# Altium footprint library Power Board UCC28951.PcbLib: 44 footprints (part 1 of 3)
Each footprint in its own frame and in the unit in brackets; x right, y up, seen from the top. Pads: shape width x height; smd on the part's side, far side on the other; paste and mask are expansions set on the pad; w line width, h text height; cw(c..) or ccw(c..) is an arc to the next point about the centre after c.
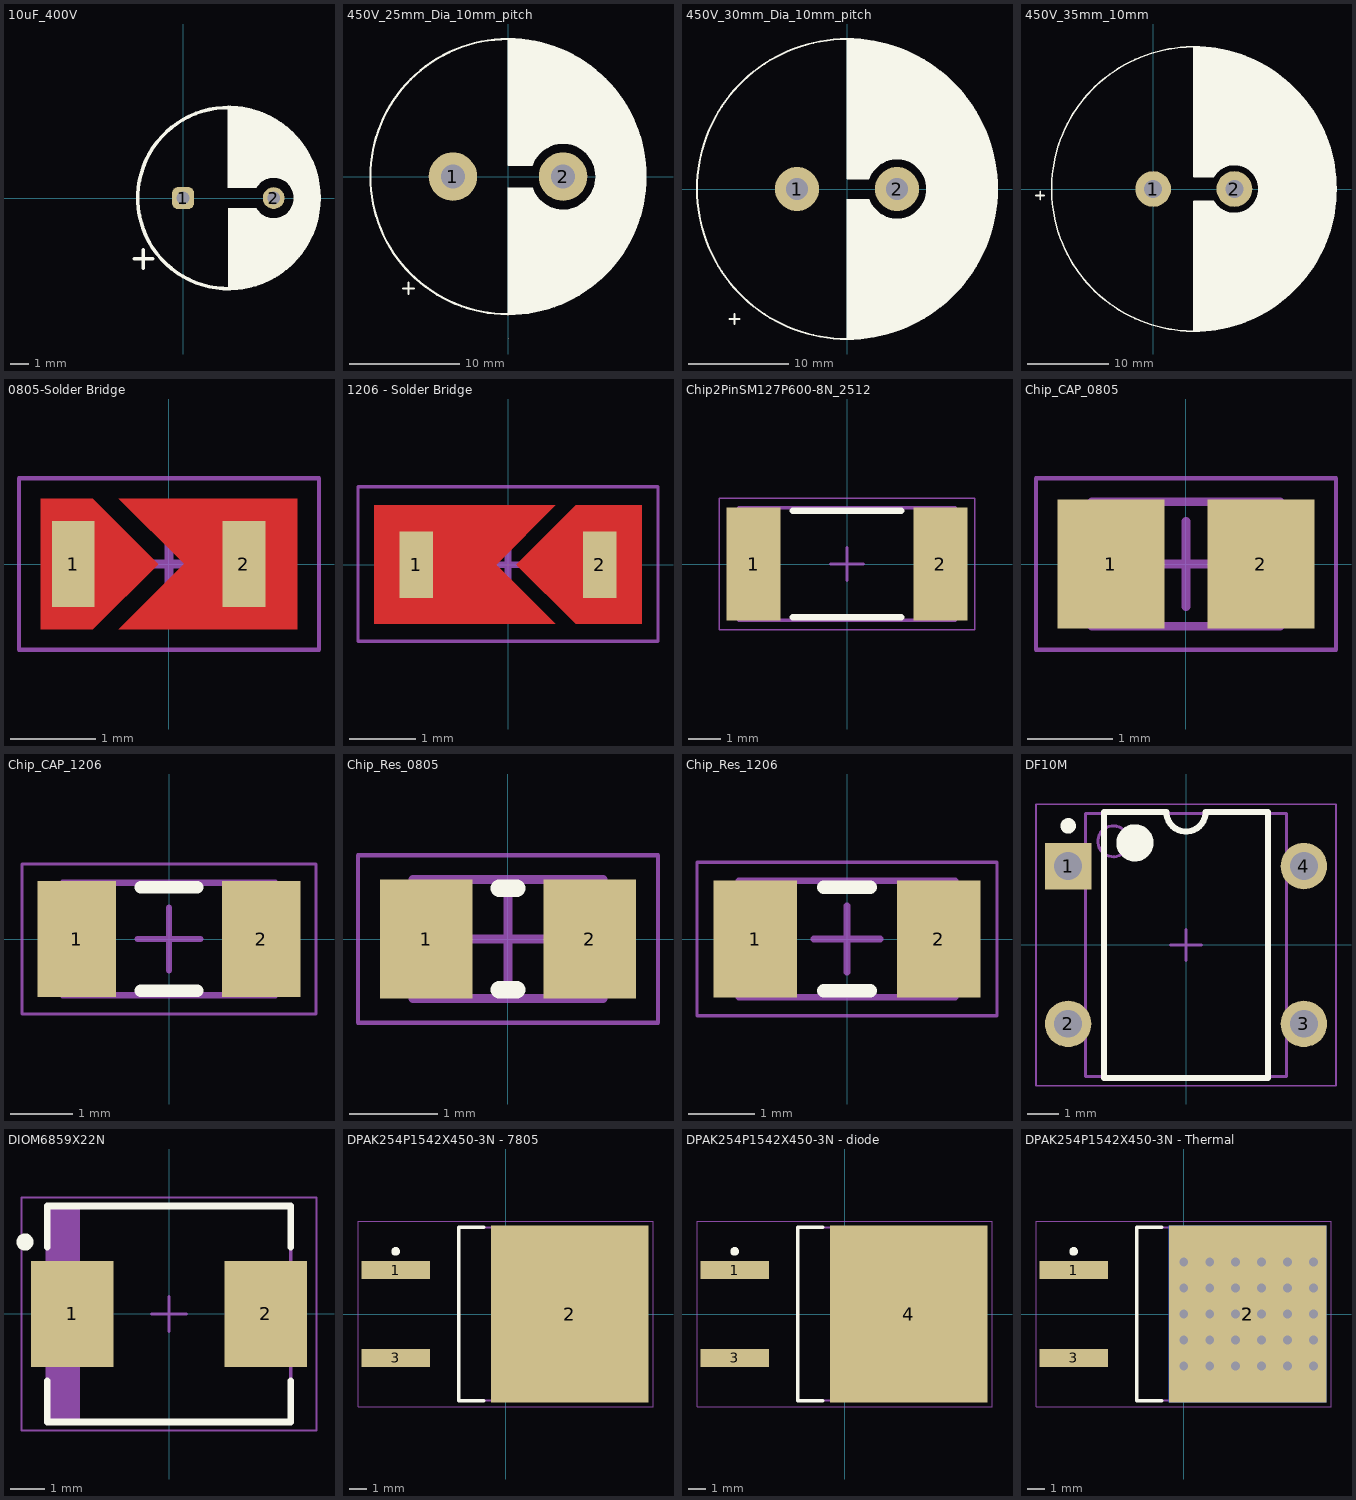
[diagram p0: the footprints below, top view; thin cyan lines are the x and y axes]

## 10uF_400V [mm]
pads (2):
  rrect50% 1.2x1.2 hole 0.7: 1(0,0)
  round 1.2 hole 0.7: 2(5,0)
Top Overlay:
  circle w0.2: c2.5,0 r5
  pour cut-out: 4,1.4
  pour cut-out: 6.5,6
  pour cut-out: -5.1,3.4
  pour cut-out: -5.6,0.2
  region: -9.052,5.286
  region: 2.5,-5 2.828,-5 3.478,-4.914 4.111,-4.745 4.716,-4.494 5.284,-4.166 5.804,-3.767 6.267,-3.304 6.666,-2.784 6.994,-2.216 7.245,-1.611 7.414,-0.978 7.5,-0.328 7.5,0.328 7.414,0.978 7.245,1.611 6.994,2.216 6.666,2.784 6.267,3.304 5.804,3.767 5.284,4.166 4.716,4.494 4.111,4.745 3.478,4.914 2.828,5 2.5,5 2.477,4.977 2.477,0.559 4.033,0.559 4.114,0.68 4.32,0.886 4.572,1.032 4.854,1.108 5.146,1.108 5.428,1.032 5.68,0.886 5.886,0.68 6.032,0.428 6.108,0.146 6.108,-0.146 6.032,-0.428 5.886,-0.68 5.68,-0.886 5.428,-1.032 5.146,-1.108 4.854,-1.108 4.572,-1.032 4.32,-0.886 4.114,-0.68 4.033,-0.559 2.5,-0.559
  lines w0.2: -2.702,-3.35 -1.686,-3.35 ; -2.194,-3.858 -2.194,-2.842 ; 2.5,-5 ccw(c2.5,0) 2.5,5
Mechanical 13:
  text "'.Designator'" at -6.328,6.764 h1.52
3D body "CP_Radial_D10.0mm_P5.00mm.step": height 10.5, standoff -1.5, extent -2.5,-4.999 7.5,5

## 450V_25mm_Dia_10mm_pitch [mm]
pads (2):
  round 4.4 hole 2.2: 1(-5,0) 2(5,0)
Top Overlay:
  circle w0.2: c0,0 r12.5
  region: 0,-12.5 0.546,-12.5 1.633,-12.405 2.708,-12.215 3.762,-11.933 4.788,-11.559 5.777,-11.098 6.723,-10.552 7.617,-9.926 8.453,-9.225 9.225,-8.453 9.926,-7.617 10.552,-6.723 11.098,-5.777 11.559,-4.788 11.933,-3.762 12.215,-2.708 12.405,-1.633 12.5,-0.546 12.5,0.546 12.405,1.633 12.215,2.708 11.933,3.762 11.559,4.788 11.098,5.777 10.552,6.723 9.926,7.617 9.225,8.453 8.453,9.225 7.617,9.926 6.723,10.552 5.777,11.098 4.788,11.559 3.762,11.933 2.708,12.215 1.633,12.405 0.546,12.5 0,12.5 0,1.026 2.181,1.026 2.281,1.268 2.543,1.721 2.879,2.121 3.279,2.457 3.732,2.719 4.224,2.898 4.739,2.989 5.261,2.989 5.776,2.898 6.268,2.719 6.721,2.457 7.121,2.121 7.457,1.721 7.719,1.268 7.898,0.776 7.989,0.261 7.989,-0.261 7.898,-0.776 7.719,-1.268 7.457,-1.721 7.121,-2.121 6.721,-2.457 6.268,-2.719 5.776,-2.898 5.261,-2.989 4.739,-2.989 4.224,-2.898 3.732,-2.719 3.279,-2.457 2.879,-2.121 2.543,-1.721 2.281,-1.268 2.181,-1.026 0,-1.026
  lines w0.05: 0,-14.75 0,-14.724 ; 0,-12.5 0,-1.026 2.181,-1.026 ccw(c5,0) 2.181,1.026 0,1.026 0,12.5
  lines w0.2: -9.543,-10.15 -8.527,-10.15 ; -9.035,-10.658 -9.035,-9.642
3D body "User Library-CE_R530_D1000_H1750.STEP": height 42.7, standoff -3.5, extent -12.7,-12.7 12.7,12.7

## 450V_30mm_Dia_10mm_pitch [mm]
pads (2):
  round 4.4 hole 2.2: 1(-5,0) 2(5,0)
Top Overlay:
  circle w0.2: c0,0 r15
  region: 0,-15 0.589,-15 1.764,-14.908 2.929,-14.723 4.075,-14.448 5.196,-14.084 6.285,-13.633 7.335,-13.098 8.34,-12.482 9.294,-11.789 10.19,-11.023 11.023,-10.19 11.789,-9.294 12.482,-8.34 13.098,-7.335 13.633,-6.285 14.084,-5.196 14.448,-4.075 14.723,-2.929 14.908,-1.764 15,-0.589 15,0.589 14.908,1.764 14.723,2.929 14.448,4.075 14.084,5.196 13.633,6.285 13.098,7.335 12.482,8.34 11.789,9.294 11.023,10.19 10.19,11.023 9.294,11.789 8.34,12.482 7.335,13.098 6.285,13.633 5.196,14.084 4.075,14.448 2.929,14.723 1.764,14.908 0.589,15 0,15 0,1.026 2.181,1.026 2.281,1.268 2.543,1.721 2.879,2.121 3.279,2.457 3.732,2.719 4.224,2.898 4.739,2.989 5.261,2.989 5.776,2.898 6.268,2.719 6.721,2.457 7.121,2.121 7.457,1.721 7.719,1.268 7.898,0.776 7.989,0.261 7.989,-0.261 7.898,-0.776 7.719,-1.268 7.457,-1.721 7.121,-2.121 6.721,-2.457 6.268,-2.719 5.776,-2.898 5.261,-2.989 4.739,-2.989 4.224,-2.898 3.732,-2.719 3.279,-2.457 2.879,-2.121 2.543,-1.721 2.281,-1.268 2.181,-1.026 0,-1.026
  lines w0.05: 0,15 0,1.026 2.181,1.026 cw(c5,0) 2.181,-1.026 0,-1.026 0,-15 0,-14.974 0.026,-14.948
  lines w0.2: -11.768,-13 -10.752,-13 ; -11.26,-13.508 -11.26,-12.492
3D body "User Library-Assy_CE_R400_D1200_H1450.STEP": height 37.33, standoff -6.39, extent -15.343,-15.303 15.137,15.177

## 450V_35mm_10mm [mm]
pads (2):
  round 4.4 hole 2.2: 1(0,0) 2(10,0)
Top Overlay:
  circle w0.2: c5,0 r17.5
  region: 5,-17.5 5.625,-17.5 6.872,-17.411 8.109,-17.233 9.331,-16.967 10.53,-16.615 11.701,-16.178 12.838,-15.659 13.936,-15.06 14.987,-14.384 15.988,-13.635 16.933,-12.817 17.817,-11.933 18.635,-10.988 19.384,-9.987 20.06,-8.936 20.659,-7.838 21.178,-6.701 21.615,-5.53 21.967,-4.331 22.233,-3.109 22.411,-1.872 22.5,-0.625 22.5,0.625 22.411,1.872 22.233,3.109 21.967,4.331 21.615,5.53 21.178,6.701 20.659,7.838 20.06,8.936 19.384,9.987 18.635,10.988 17.817,11.933 16.933,12.817 15.988,13.635 14.987,14.384 13.936,15.06 12.838,15.659 11.701,16.178 10.53,16.615 9.331,16.967 8.109,17.233 6.872,17.411 5.625,17.5 5,17.5 5,1.5 7.402,1.5 7.533,1.707 7.844,2.086 8.213,2.41 8.629,2.669 9.082,2.856 9.56,2.968 10.049,3 10.537,2.952 11.011,2.825 11.457,2.622 11.865,2.35 12.223,2.015 12.521,1.626 12.752,1.193 12.91,0.729 12.99,0.245 12.99,-0.245 12.91,-0.729 12.752,-1.193 12.521,-1.626 12.223,-2.015 11.865,-2.35 11.457,-2.622 11.011,-2.825 10.537,-2.952 10.049,-3 9.56,-2.968 9.082,-2.856 8.629,-2.669 8.213,-2.41 7.844,-2.086 7.533,-1.707 7.402,-1.5 5,-1.5
  lines w0.2: -14.418,-0.8 -13.402,-0.8 ; -13.91,-1.308 -13.91,-0.292 ; 5,-17.5 ccw(c5,0) 5,17.5 5,1.5 7.402,1.5 cw(c10,0) 7.402,-1.5 5,-1.5 5,-17.5
3D body "35_40_EC.x_t": height 40.5, standoff -2.94, extent -12.502,-17.499 22.516,17.499

## 0805-Solder Bridge [mm]
height 1.2
pads (2):
  rect 0.5x1 smd: 1(-1.118,0) 2(0.875,0)
Top Layer:
  region: -1.499,-0.762 -1.499,0.762 -0.889,0.762 -0.127,0 -0.889,-0.762
  region: 0.178,0 -0.584,0.762 1.499,0.762 1.499,-0.762 -0.584,-0.762
Mechanical 13:
  text "'.Designator'" at -1.746,2.762 h1.52
Mechanical 15:
  lines w0.05: -1.75,-1 1.75,-1 1.75,1 -1.75,1 -1.75,-1
  lines w0.1: -0.5,0 0.5,0 ; 0,-0.5 0,0.5

## 1206 - Solder Bridge [mm]
height 0.55
pads (2):
  rect 0.5x1 smd: 1(-1.375,0) 2(1.375,0)
Top Layer:
  region: 0.127,0 1.016,-0.889 2.007,-0.889 2.007,0.889 1.016,0.889
  region: -2.007,-0.889 0.711,-0.889 -0.178,0 0.711,0.889 -2.007,0.889
Mechanical 13:
  text "'.Designator'" at -7.01,-3.48 h1.52
Mechanical 15:
  lines w0.05: -2.25,-1.15 2.25,-1.15 2.25,1.168 -2.25,1.168 -2.25,-1.15
  lines w0.1: -0.5,0 0.5,0 ; 0,-0.5 0,0.5

## Chip2PinSM127P600-8N_2512 [mm]
height 0.8
pads (2):
  rect 1.65x3.45 smd: 1(-2.85,0) 2(2.85,0)
Top Overlay:
  lines w0.2: -1.65,-1.625 1.65,-1.625 ; -1.65,1.625 1.65,1.625
Mechanical 13:
  lines w0.1: -3.3,-1.715 -3.3,1.715 3.3,1.715 3.3,-1.715 -3.3,-1.715
Mechanical 15:
  lines w0.05: -3.9,-2 -3.9,2 3.9,2 3.9,-2 -3.9,-2
  lines w0.1: -0.5,0 0.5,0 ; 0,-0.5 0,0.5
3D body "Chip2PinSM127P600-8N_2512.step": height 0.8, standoff 0, extent -3.3,-1.715 3.3,1.715

## Chip_CAP_0805 [mm]
height 1.2
pads (2):
  rect 1.25x1.5 smd: 1(-0.875,0) 2(0.875,0)
Mechanical 13:
  lines w0.1: -1.1,-0.725 -1.1,0.725 1.1,0.725 1.1,-0.725 -1.1,-0.725
  text "'.Designator'" at -1.746,2.762 h1.52
Mechanical 15:
  lines w0.05: -1.75,-1 -1.75,1 1.75,1 1.75,-1 -1.75,-1
  lines w0.1: -0.5,0 0.5,0 ; 0,-0.5 0,0.5
3D body "Chip_CAP_0805.step": height 1.2, standoff 0, extent -1.1,-0.725 1.1,0.725

## Chip_CAP_1206 [mm]
height 1.4
pads (2):
  rect 1.25x1.85 smd: 1(-1.475,0) 2(1.475,0)
Top Overlay:
  lines w0.2: -0.45,-0.825 0.45,-0.825 ; -0.45,0.825 0.45,0.825
Mechanical 13:
  lines w0.1: -1.7,-0.9 1.7,-0.9 1.7,0.9 -1.7,0.9 -1.7,-0.9
  text "'.Designator'" at -6.166,2.24 h1.52
Mechanical 15:
  lines w0.05: -2.35,-1.2 2.35,-1.2 2.35,1.2 -2.35,1.2 -2.35,-1.2
  lines w0.1: -0.5,0 0.5,0 ; 0,-0.5 0,0.5
3D body "Chip_CAP_1206.step": height 1.4, standoff 0, extent -1.7,-0.9 1.7,0.9

## Chip_Res_0805 [mm]
height 0.5
pads (2):
  rect 1.05x1.35 smd: 1(-0.925,0) 2(0.925,0)
Top Overlay:
  lines w0.2: -0.1,-0.575 0.1,-0.575 ; -0.1,0.575 0.1,0.575
Mechanical 13:
  lines w0.1: -1.075,-0.675 -1.075,0.675 1.075,0.675 1.075,-0.675 -1.075,-0.675
  text "'.Designator'" at -5.404,-2.84 h1.52
Mechanical 15:
  lines w0.05: -1.7,-0.95 -1.7,0.95 1.7,0.95 1.7,-0.95 -1.7,-0.95
  lines w0.1: -0.5,0 0.5,0 ; 0,-0.5 0,0.5
3D body "Chip_Res_0805.step": height 0.5, standoff 0, extent -1.075,-0.675 1.075,0.675

## Chip_Res_1206 [mm]
height 0.55
pads (2):
  rect 1.25x1.75 smd: 1(-1.375,0) 2(1.375,0)
Top Overlay:
  lines w0.2: -0.35,-0.775 0.35,-0.775 ; -0.35,0.775 0.35,0.775
Mechanical 13:
  lines w0.1: -1.625,-0.875 -1.625,0.875 1.625,0.875 1.625,-0.875 -1.625,-0.875
  text "'.Designator'" at -6.604,-3.048 h1.52
Mechanical 15:
  lines w0.05: -2.25,-1.15 -2.25,1.15 2.25,1.15 2.25,-1.15 -2.25,-1.15
  lines w0.1: -0.5,0 0.5,0 ; 0,-0.5 0,0.5
3D body "Chip_Res_1206.step": height 0.55, standoff 0, extent -1.625,-0.875 1.625,0.875

## DF10M [mm]
pads (4):
  rect 1.5x1.5 hole 0.9: 1(-3.81,2.55)
  round 1.5 hole 0.9: 2(-3.81,-2.55) 3(3.81,-2.55) 4(3.81,2.55)
Top Overlay:
  circle w0.25: c-3.81,3.85 r0.125
  circle w0.6: c-1.65,3.3 r0.3
  lines w0.2: -2.65,-4.3 -2.65,4.3 -0.635,4.3 ccw(c0,4.3) 0.635,4.3 2.65,4.3 2.65,-4.3 -2.65,-4.3
Mechanical 13:
  circle w0.1: c-2.35,3.35 r0.5
  lines w0.1: -3.25,-4.25 -3.25,4.25 3.25,4.25 3.25,-4.25 -3.25,-4.25
Mechanical 15:
  lines w0.05: -4.85,-4.55 -4.85,4.55 4.85,4.55 4.85,-4.55 -4.85,-4.55
  lines w0.1: -0.5,0 0.5,0 ; 0,-0.5 0,0.5
3D body "Diode_Bridge_DIP-4_W7.62mm_P5.08mm.step": height 3.5, standoff -3, extent -4.01,-4.318 4.01,4.182

## DIOM6859X22N [mm] "Molded Diode, 2-Leads, Body 6.85x5.91mm, IPC Medium Density"
height 2.25
pads (2):
  rect 2.4x3.1 smd: 1(-2.825,0) 2(2.825,0)
Top Overlay:
  circle w0.25: c-4.2,2.1 r0.125
  lines w0.2: -3.55,-1.95 -3.55,-3.15 3.55,-3.15 3.55,-1.95 ; -3.55,1.95 -3.55,3.15 3.55,3.15 3.55,1.95
Mechanical 13:
  rectangle: -3.55,-3.11 -2.595,3.11
  lines w0.1: -3.55,-3.11 3.55,-3.11 3.55,3.11 -3.55,3.11 -3.55,-3.11
Mechanical 15:
  lines w0.05: -4.3,-3.4 4.3,-3.4 4.3,3.4 -4.3,3.4 -4.3,-3.4
  lines w0.1: -0.5,0 0.5,0 ; 0,-0.5 0,0.5
3D body "DIOM6859X22N.step": height 2.25, standoff 0, extent -3.77,-3.11 3.77,3.11

## DPAK254P1542X450-3N - 7805 [mm] "D2-PAK, 3-Pads, Body 7.60x8.36mm (max), IPC Medium Density"
height 4.5
pads (3):
  rect 3.95x1.05 smd: 1(-6.35,2.54) 3(-6.35,-2.54)
  rect 9.1x10.2 smd: 2(3.7,0)
Top Overlay:
  circle w0.25: c-6.35,3.615 r0.125
  lines w0.2: -1.25,-5 -2.7,-5 -2.7,5 -1.25,5
Mechanical 13:
  lines w0.1: -2.7,-5 -2.7,5 6.3,5 6.3,-5 -2.7,-5
Mechanical 15:
  lines w0.05: -8.525,-5.35 -8.525,5.35 8.525,5.35 8.525,-5.35 -8.525,-5.35
  lines w0.1: -0.5,0 0.5,0 ; 0,-0.5 0,0.5
3D body "TO-263-2.step": height 4.67, standoff 0.25, extent -7.5,-5 7.5,5

## DPAK254P1542X450-3N - diode [mm] "D2-PAK, 3-Pads, Body 7.60x8.36mm (max), IPC Medium Density"
height 4.5
pads (3):
  rect 3.95x1.05 smd: 1(-6.35,2.54) 3(-6.35,-2.54)
  rect 9.1x10.2 smd: 4(3.7,0)
Top Overlay:
  circle w0.25: c-6.35,3.615 r0.125
  lines w0.2: -1.25,-5 -2.7,-5 -2.7,5 -1.25,5
Mechanical 13:
  lines w0.1: -2.7,-5 6.3,-5 6.3,5 -2.7,5 -2.7,-5
Mechanical 15:
  lines w0.05: -8.525,-5.35 8.525,-5.35 8.525,5.35 -8.525,5.35 -8.525,-5.35
  lines w0.1: -0.5,0 0.5,0 ; 0,-0.5 0,0.5
3D body "TO-263-2.step": height 4.67, standoff 0.25, extent -7.5,-5 7.5,5

## DPAK254P1542X450-3N - Thermal [mm] "D2-PAK, 3-Pads, Body 7.60x8.36mm (max), IPC Medium Density"
height 4.5
pads (4):
  rect 3.95x1.05 smd: 1(-6.35,2.54) 3(-6.35,-2.54)
  rect 9.1x10.2 smd: 2(3.7,0)
  rect 9.1x10.2 smd far side: 2(3.7,0)
via 7.5,-3 diameter 1 hole 0.5
via 6,-3 diameter 1 hole 0.5
via 4.5,-3 diameter 1 hole 0.5
via 3,-3 diameter 1 hole 0.5
via 1.5,-3 diameter 1 hole 0.5
via 0,-3 diameter 1 hole 0.5
via 7.5,-1.5 diameter 1 hole 0.5
via 6,-1.5 diameter 1 hole 0.5
via 4.5,-1.5 diameter 1 hole 0.5
via 3,-1.5 diameter 1 hole 0.5
via 1.5,-1.5 diameter 1 hole 0.5
via 0,-1.5 diameter 1 hole 0.5
via 7.5,3 diameter 1 hole 0.5
via 6,3 diameter 1 hole 0.5
via 4.5,3 diameter 1 hole 0.5
via 3,3 diameter 1 hole 0.5
via 1.5,3 diameter 1 hole 0.5
via 0,3 diameter 1 hole 0.5
via 7.5,1.5 diameter 1 hole 0.5
via 6,1.5 diameter 1 hole 0.5
via 4.5,1.5 diameter 1 hole 0.5
via 3,1.5 diameter 1 hole 0.5
via 1.5,1.5 diameter 1 hole 0.5
via 0,1.5 diameter 1 hole 0.5
via 7.5,0 diameter 1 hole 0.5
via 6,0 diameter 1 hole 0.5
via 4.5,0 diameter 1 hole 0.5
via 3,0 diameter 1 hole 0.5
via 1.5,0 diameter 1 hole 0.5
via 0,0 diameter 1 hole 0.5
Top Overlay:
  circle w0.25: c-6.35,3.615 r0.125
  lines w0.2: -1.25,-5 -2.7,-5 -2.7,5 -1.25,5
Mechanical 13:
  lines w0.1: -2.7,-5 6.3,-5 6.3,5 -2.7,5 -2.7,-5
Mechanical 15:
  lines w0.05: -8.525,-5.35 8.525,-5.35 8.525,5.35 -8.525,5.35 -8.525,-5.35
  lines w0.1: -0.5,0 0.5,0 ; 0,-0.5 0,0.5
3D body "TO-263-2.step": height 4.67, standoff 0.25, extent -7.5,-5 7.5,5